# Altium schematic symbol library control Board.SchLib: 43 symbols
Pins are listed as number, name and electrical type; pins without a type are passive.

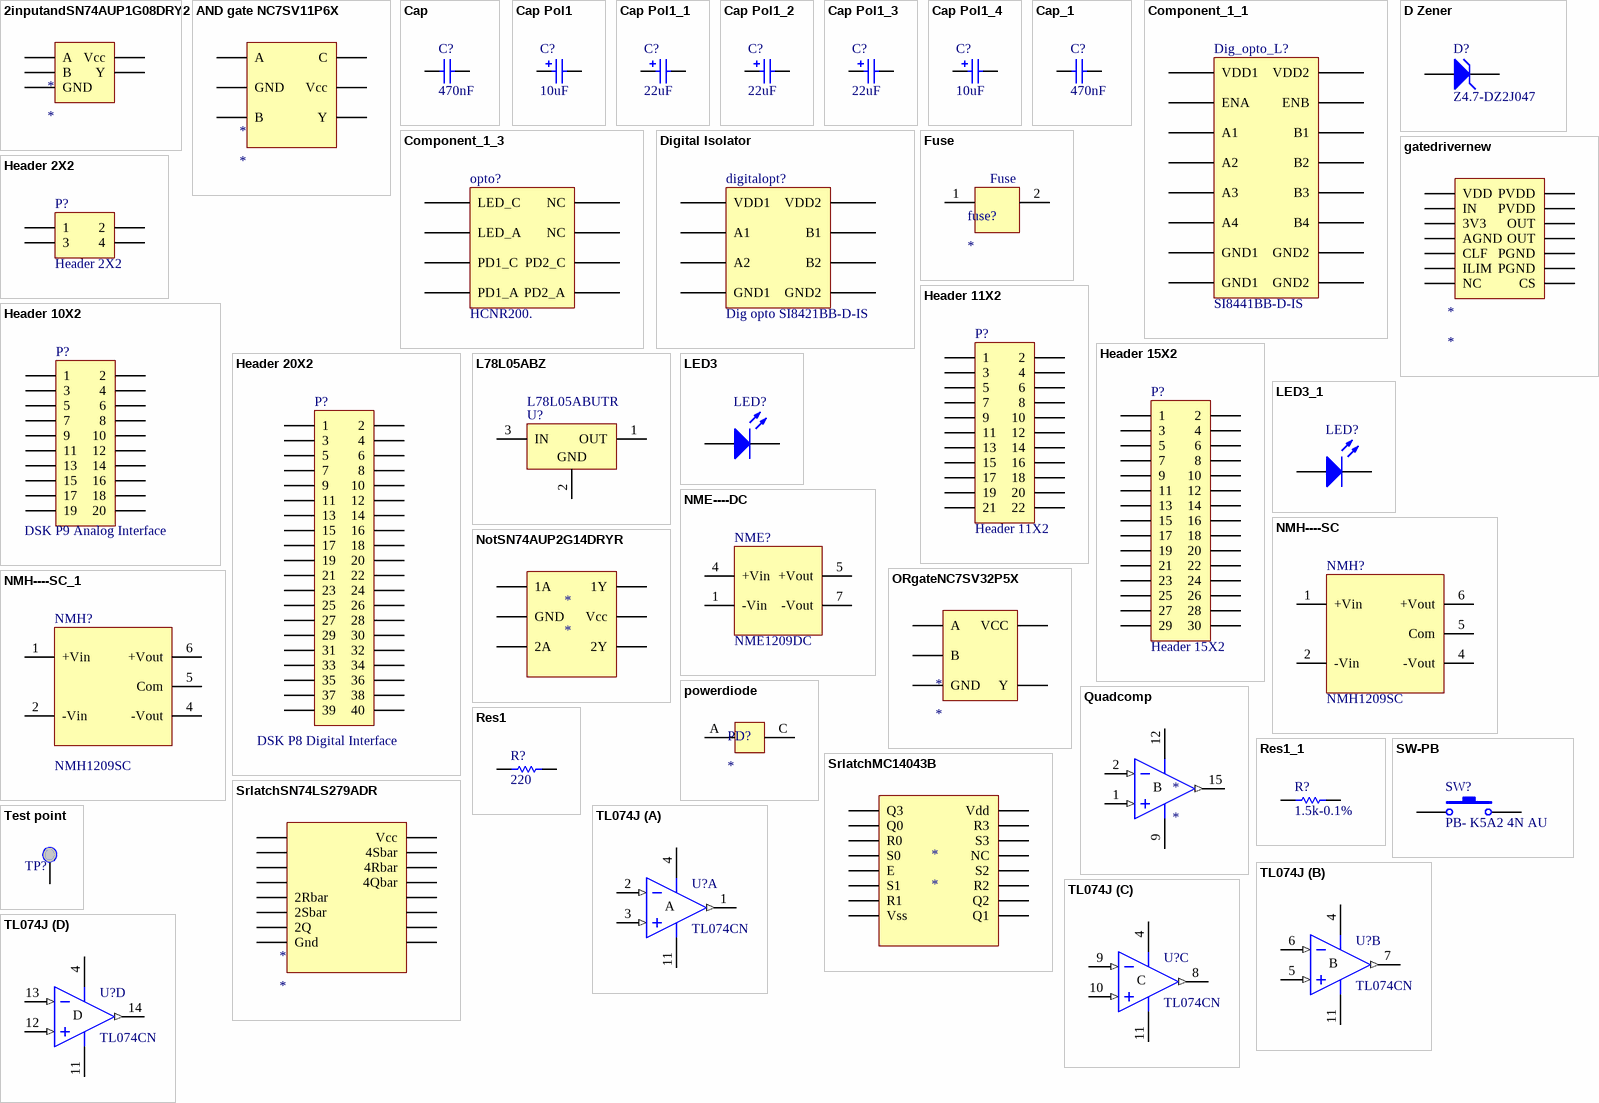
[diagram p0: symbols 2inputandSN74AUP1G08DRY2 to TL074J]

## 2inputandSN74AUP1G08DRY2
designator *
pins: 45 A, 46 B, 47 GND, 48 Vcc, 49 Y

## AND gate NC7SV11P6X
designator *
pins: 17 A, 18 GND, 20 C, 21 Vcc, 22 Y, ?1 B

## Cap
designator C?  value 470nF  (hidden comment: Cap)
Capacitor; Published: 8-Jun-2000; LatestRevisionDate: 17-Jul-2002; LatestRevisionNote: Re-released for DXP Platform.; PackageReference: RAD-0.3; Publisher: Altium Limited
simulation model CAP (Capacitor)
signal-integrity model Cap
footprint Capacitor 0805
pins: 1, 2

## Cap Pol1
designator C?, comment value 10uF  (hidden comment: electrolytic)
Polarized Capacitor (Radial); Published: 8-Jun-2000; LatestRevisionDate: 17-Jul-2002; LatestRevisionNote: Re-released for DXP Platform.; PackageReference: RB7.6-15; Publisher: Altium Limited
footprint RB7.6-15 (Polarized Capacitor (Radial); 2 Leads)
footprint CAPPR1.27-1.7x2.8 (Capacitor, Radial, Tantalum; Body 1.7 x 2.8 mm (Dia.xH max); Pin Spacing 1.27 mm (typ))
footprint CAPPR1.5-4x5 (Capacitor, Electrolytic, Radial; Body 4 x 5 mm (Dia.xH typ); Pin Spacing 1.5 mm (typ))
footprint CAPPR2-5x6.8 (Capacitor, Electrolytic, Radial; Body 5 x 6.8 mm (Dia.xH typ); Pin Spacing 2 mm (typ))
footprint CAPPR5-5x5 (Capacitor, Electrolytic, Radial; Body 5 x 5 mm (Dia.xH typ); Pin Spacing 5 mm (typ))
footprint CAPPR7.5-16x35 (Capacitor, Electrolytic, Radial; Body 16 x 35 mm (Dia.xH typ); Pin Spacing 7.5 mm (typ))
simulation model CAP (Capacitor)
signal-integrity model Cap Pol
footprint CAP-10u-16V
pins: 1, 2
1 alternate drawing of the same symbol

## Cap Pol1_1
designator C?, comment value 22uF  (hidden comment: Tantalium)
Polarized Capacitor (Radial); Published: 8-Jun-2000; LatestRevisionDate: 17-Jul-2002; LatestRevisionNote: Re-released for DXP Platform.; PackageReference: RB7.6-15; Publisher: Altium Limited
simulation model CAP (Capacitor)
signal-integrity model Cap Pol
footprint Cap tantal 22u-25V
pins: 1, 2
1 alternate drawing of the same symbol

## Cap Pol1_2
designator C?, comment value 22uF  (hidden comment: Tantalium/T520A226M006ATE090)
Polarized Capacitor (Radial); Published: 8-Jun-2000; LatestRevisionDate: 17-Jul-2002; LatestRevisionNote: Re-released for DXP Platform.; PackageReference: RB7.6-15; Publisher: Altium Limited
simulation model CAP (Capacitor)
signal-integrity model Cap Pol
footprint Cap tantal 22u-25V
footprint Cap Tantal 3216
footprint Cap Tantal 3216
pins: 1, 2
1 alternate drawing of the same symbol

## Cap Pol1_3
designator C?, comment value 22uF  (hidden comment: Tantalium/T520A226M006ATE090)
Polarized Capacitor (Radial); Published: 8-Jun-2000; LatestRevisionDate: 17-Jul-2002; LatestRevisionNote: Re-released for DXP Platform.; PackageReference: RB7.6-15; Publisher: Altium Limited
simulation model CAP (Capacitor)
signal-integrity model Cap Pol
footprint Cap tantal 22u-25V
footprint Cap Tantal 3216
pins: 1, 2
1 alternate drawing of the same symbol

## Cap Pol1_4
designator C?, comment value 10uF  (hidden comment: electrolytic)
Polarized Capacitor (Radial); Published: 8-Jun-2000; LatestRevisionDate: 17-Jul-2002; LatestRevisionNote: Re-released for DXP Platform.; PackageReference: RB7.6-15; Publisher: Altium Limited
footprint RB7.6-15 (Polarized Capacitor (Radial); 2 Leads)
footprint CAPPR1.27-1.7x2.8 (Capacitor, Radial, Tantalum; Body 1.7 x 2.8 mm (Dia.xH max); Pin Spacing 1.27 mm (typ))
footprint CAPPR1.5-4x5 (Capacitor, Electrolytic, Radial; Body 4 x 5 mm (Dia.xH typ); Pin Spacing 1.5 mm (typ))
footprint CAPPR2-5x6.8 (Capacitor, Electrolytic, Radial; Body 5 x 6.8 mm (Dia.xH typ); Pin Spacing 2 mm (typ))
footprint CAPPR5-5x5 (Capacitor, Electrolytic, Radial; Body 5 x 5 mm (Dia.xH typ); Pin Spacing 5 mm (typ))
footprint CAPPR7.5-16x35 (Capacitor, Electrolytic, Radial; Body 16 x 35 mm (Dia.xH typ); Pin Spacing 7.5 mm (typ))
simulation model CAP (Capacitor)
signal-integrity model Cap Pol
footprint Cap elec 10u/16V
pins: 1, 2
1 alternate drawing of the same symbol

## Cap_1
designator C?, comment value 470nF  (hidden comment: Cap)
Capacitor; Published: 8-Jun-2000; LatestRevisionDate: 17-Jul-2002; LatestRevisionNote: Re-released for DXP Platform.; PackageReference: RAD-0.3; Publisher: Altium Limited
simulation model CAP (Capacitor)
signal-integrity model Cap
footprint Capacitor 0805
footprint Capacitor 0805
footprint Capacitor 0805
pins: 1, 2

## Component_1_1
designator Dig_opto_L?, comment SI8441BB-D-IS
footprint SOIC127P1030-16AL (SOIC, 16-Leads, Body 10.3x7.5mm, Pitch 1.27mm, IPC High Density)
footprint opto Si844
pins: 1 VDD1, 2 GND1, 3 A1, 4 A2, 5 A3, 6 A4, 7 ENA, 8 GND1, 9 GND2, 10 ENB, 11 B4, 12 B3, 13 B2, 14 B1, 15 GND2, 16 VDD2

## Component_1_3
designator opto?, comment HCNR200.
footprint HCNR200
pins: 1 LED_C, 2 LED_A, 3 PD1_C, 4 PD1_A, 5 PD2_A, 6 PD2_C, 7 NC, 8 NC

## D Zener
designator D?, comment Z4.7-DZ2J047
Zener Diode; Published: 8-Jun-2000; LatestRevisionDate: 17-Jul-2002; LatestRevisionNote: Re-released for DXP Platform.; PackageReference: DIODE-0.7; Publisher: Altium Limited
footprint DIODE-0.7 (Diode, Thru-Hole; 2 Leads; 0.7 in Pin Spacing)
simulation model ZENER (Diode)
signal-integrity model D Zener
footprint Zener DZ2J047
pins: 1 A, 2 K

## Digital Isolator
designator digitalopt?, comment Dig opto SI8421BB-D-IS
footprint SOIC127P600-8BL (SOIC, 8-Leads, Body 4.9x3.9mm, Pitch 1.27mm, IPC High Density)
footprint SO8 TS27l2
pins: 1 VDD1, 2 A1, 3 A2, 4 GND1, 5 GND2, 6 B2, 7 B1, 8 VDD2

## Fuse
designator fuse?
footprint fuse10a
pins: 1, 2

## gatedrivernew
designator *
pins: 2 VDD, 4 3V3, 5 AGND, 6 CLF, 7 ILIM, 8 NC, 9 PVDD, 10 PVDD, 11 OUT, 12 OUT, 13 PGND, ?1 IN, ?2 PGND, ?3 CS

## Header 2X2
designator P?
Header, 2-Pin, Dual row; LatestRevisionDate: 17-Jul-2002; LatestRevisionNote: Re-released for DXP Platform.; Publisher: Altium Limited
footprint HDR2X2 (Connector; Header; 2x2 Position)
signal-integrity model Connector
pins: 1, 2, 3, 4

## Header 10X2
designator P?, comment DSK P9 Analog Interface
Header, 10-Pin, Dual row; LatestRevisionDate: 17-Jul-2002; LatestRevisionNote: Re-released for DXP Platform.; Publisher: Altium Limited
footprint HDR2X10 (Connector; Header; 10x2 Position)
signal-integrity model Connector
footprint Header 2*10
pins: 1, 2, 3, 4, 5, 6, 7, 8, 9, 10, 11, 12, 13, 14, 15, 16, 17, 18, 19, 20

## Header 11X2
designator P?
Header, 11-Pin, Dual row; LatestRevisionDate: 17-Jul-2002; LatestRevisionNote: Re-released for DXP Platform.; Publisher: Altium Limited
footprint HDR2X11 (Connector; Header; 11x2 Position)
signal-integrity model Connector
pins: 1, 2, 3, 4, 5, 6, 7, 8, 9, 10, 11, 12, 13, 14, 15, 16, 17, 18, 19, 20, 21, 22

## Header 15X2
designator P?
Header, 15-Pin, Dual row; LatestRevisionDate: 17-Jul-2002; LatestRevisionNote: Re-released for DXP Platform.; Publisher: Altium Limited
footprint HDR2X15 (Connector; Header; 15x2 Position)
signal-integrity model Connector
pins: 1, 2, 3, 4, 5, 6, 7, 8, 9, 10, 11, 12, 13, 14, 15, 16, 17, 18, 19, 20, 21, 22, 23, 24, 25, 26, 27, 28, 29, 30

## Header 20X2
designator P?, comment DSK P8 Digital Interface
Header, 20-Pin, Dual row; LatestRevisionDate: 17-Jul-2002; LatestRevisionNote: Re-released for DXP Platform.; Publisher: Altium Limited
footprint HDR2X20 (Connector; Header; 20x2 Position)
signal-integrity model Connector
pins: 1, 2, 3, 4, 5, 6, 7, 8, 9, 10, 11, 12, 13, 14, 15, 16, 17, 18, 19, 20, 21, 22, 23, 24, 25, 26, 27, 28, 29, 30, 31, 32, 33, 34, 35, 36, 37, 38, 39, 40

## L78L05ABZ
designator U?, comment L78L05ABUTR
Positive Voltage Regulator; Published: 24-Aug-2001; LatestRevisionDate: 17-Jul-2002; LatestRevisionNote: Re-released for DXP Platform.; DatasheetVersion: Feb-1999; PackageReference: TO92; Publisher: Altium Limited; PackageDescription: TO, Flat Index; 3 In-Line, Axial Leads; Body Dia. 4.8mm; Leads 0.51 x 0.51 mm (max); ComponentLink1Description: Manufacturer Link; ComponentLink1URL: http://www.st.com/
footprint TO92 (TO, Flat Index; 3 In-Line, Axial Leads; Body Dia. 4.8mm; Leads 0.51 x 0.51 mm (max))
footprint Reg SOT-89 +5
pins: 1 OUT (power), 2 GND (power), 3 IN (power)

## LED3
designator LED?, comment ON  (value not drawn)
Typical BLUE SiC LED; Published: 8-Jun-2000; LatestRevisionDate: 17-Dec-2003; LatestRevisionNote: PCB Footprint replaced.; DatasheetDocument: 16-Apr-2002; PackageDocument: 16-Apr-2002; PackageReference: 3.5X2.8X1.9; Publisher: Altium Limited
footprint 3.5X2.8X1.9 (SM LED; 2 C-Bend Leads; Body 3.5 x 2.8 x 1.9 mm, inc leads (LxWxH typ))
simulation model LED3 (Diode)
signal-integrity model LED
footprint LED 0805
pins: 1 A, 2 K

## LED3_1
designator LED?, comment ON  (value not drawn)
Typical BLUE SiC LED; Published: 8-Jun-2000; LatestRevisionDate: 17-Dec-2003; LatestRevisionNote: PCB Footprint replaced.; DatasheetDocument: 16-Apr-2002; PackageDocument: 16-Apr-2002; PackageReference: 3.5X2.8X1.9; Publisher: Altium Limited
footprint 3.5X2.8X1.9 (SM LED; 2 C-Bend Leads; Body 3.5 x 2.8 x 1.9 mm, inc leads (LxWxH typ))
simulation model LED3 (Diode)
signal-integrity model LED
footprint LED 0805
footprint LED 0805
pins: 1 A, 2 K

## NME----DC
designator NME?, comment NME1209DC
footprint NME1209DC
pins: 1 -Vin, 4 +Vin, 5 +Vout, 7 -Vout

## NMH----SC
designator NMH?, comment NMH1209SC
footprint Power_isolated
footprint Power_isolated
pins: 1 +Vin, 2 -Vin, 4 -Vout, 5 Com, 6 +Vout

## NMH----SC_1
designator NMH?, comment NMH1209SC
footprint NMH1209SC
pins: 1 +Vin, 2 -Vin, 4 -Vout, 5 Com, 6 +Vout

## NotSN74AUP2G14DRYR
designator *
pins: 17 1A, 18 GND, 20 1Y, 21 Vcc, 22 2Y, ?1 2A

## ORgateNC7SV32P5X
designator *
pins: 39 A, 40 B, 41 GND, 42 VCC, 44 Y

## powerdiode
designator PD?
footprint diodes600v15AMUR1560GOS-ND
pins: A, C

## Quadcomp
designator *
pins: 1 IN+ (in), 2 IN- (in), 9 V- (power), 12, 15 OUTA (out)
text: B

## Res1
designator R?  value 220  (hidden comment: Res1)
Resistor; Published: 8-Jun-2000; Revision: July-2002: Re-released for DXP Platform.; Publisher: Altium Limited
simulation model RESISTOR (Resistor)
signal-integrity model Res
footprint 0805 RES
pins: 1, 2
1 alternate drawing of the same symbol

## Res1_1
designator R?, comment value 1.5k-0.1%  (hidden comment: Res1)
Resistor; Published: 8-Jun-2000; LatestRevisionDate: 17-Jul-2002; LatestRevisionNote: Re-released for DXP Platform.; PackageReference: AXIAL-0.3; Publisher: Altium Limited
simulation model RESISTOR (Resistor)
signal-integrity model Res
footprint 0805 RES
pins: 1, 2

## SrlatchMC14043B
designator *
pins: 23 Vdd, 24 R3, 25 S3, 26 NC, 27 S2, 28 R2, 29 Q2, 30 Q1, 31 Q3, 32 Q0, 33 R0, 34 S0, 35 E, 36 S1, 37 R1, 38 Vss

## SrlatchSN74LS279ADR
designator *
pins: 23 Vcc, 24 4Sbar, 25 4Rbar, 26 4Qbar, 27, 28, 29, 30, 31, 32, 33, 34, 35 2Rbar, 36 2Sbar, 37 2Q, 38 Gnd

## SW-PB
designator SW?, comment PB- K5A2 4N AU
Switch; Published: 24-Mar-1999; Revision: July-2002: Re-released for DXP Platform.; Publisher: Altium Limited
footprint SPST-2 (Switch; 2 Leads)
footprint switch-2
footprint SWITCH_SMD
footprint push button
pins: 1, 2

## Test point
designator TP?  (value not drawn)
footprint Test Point
pins: 1

## TL074J
designator U?, comment TL074CN
Low-Noise JFET-Input Operational Amplifier; Published: 16-Jan-2001; LatestRevisionDate: 04-Mar-2005; LatestRevisionNote: Stylized 3D Model Added.; DatasheetVersion: Aug-1996; PackageVersion: Jun-1999; PackageReference: J014; Publisher: Altium Limited; PackageDescription: DIP; 14 Leads; Row Spacing 7.62 mm; Pitch 2.54 mm; ComponentLink1Description: Manufacturer Link; ComponentLink1URL: http://www.ti.com/; ComponentLink2Description: Datasheet; ComponentLink2URL: http://www-s.ti.com/sc/ds/tl074.pdf
3D model J014 (DIP; 14 Leads; Row Spacing 7.62 mm; Pitch 2.54 mm)
simulation model TL074 (SUBCKT)
footprint DIP14
pins on every part: 4 V+ (power), 11 V- (power)
part A pins: 1 OUT (out), 2 IN- (in), 3 IN+ (in)
part B pins: 5 IN+ (in), 6 IN- (in), 7 OUT (out)
part C pins: 8 OUT (out), 9 IN- (in), 10 IN+ (in)
part D pins: 12 IN+ (in), 13 IN- (in), 14 OUT (out)
part A text: A
part B text: B
part C text: C
part D text: D

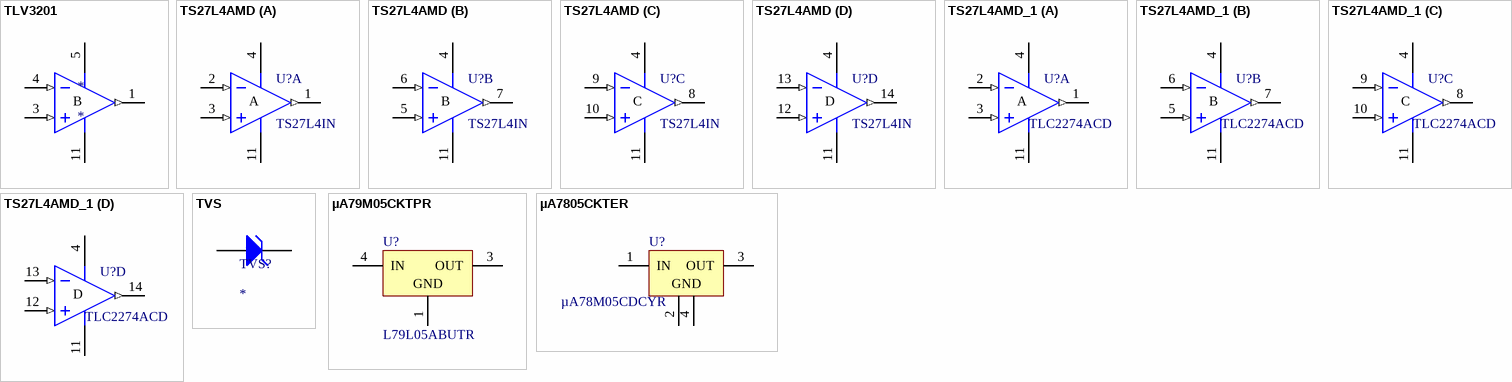
[diagram p1: symbols TLV3201 to µA7805CKTER]

## TLV3201
designator *
pins: 1 out (out), 3 IN+ (in), 4 IN- (in), 5 V+ (power), 11 2 (power)
text: B

## TS27L4AMD
designator U?, comment TS27L4IN
Very Low-Power CMOS Quad Operational Amplifier; Published: 24-Aug-2001; LatestRevisionDate: 13-Apr-2006; LatestRevisionNote: IPC-7351 Footprint Added.; DatasheetVersion: Nov-1998; PackageVersion: Sep-1998; PackageReference: SO14; Publisher: Altium Limited; PackageDescription: 14-Pin Small Outline Integrated Circuit 1.27 mm Pitch; Code_IPC: SOIC127P600-14; ComponentLink1Description: Manufacturer Link; ComponentLink1URL: http://www.st.com/; ComponentLink2Description: Datasheet; ComponentLink2URL: http://www.st.com/stonline/products/literature/ds/2305/ts27l4.pdf
3D model SO14 (14-Pin Small Outline Integrated Circuit 1.27 mm Pitch)
footprint DIP14
pins on every part: 4 V+ (power), 11 V- (power)
part A pins: 1 OUT (out), 2 IN- (in), 3 IN+ (in)
part B pins: 5 IN+ (in), 6 IN- (in), 7 OUT (out)
part C pins: 8 OUT (out), 9 IN- (in), 10 IN+ (in)
part D pins: 12 IN+ (in), 13 IN- (in), 14 OUT (out)
part A text: A
part B text: B
part C text: C
part D text: D

## TS27L4AMD_1
designator U?, comment TLC2274ACD
Very Low-Power CMOS Quad Operational Amplifier; Published: 24-Aug-2001; LatestRevisionDate: 13-Apr-2006; LatestRevisionNote: IPC-7351 Footprint Added.; DatasheetVersion: Nov-1998; PackageVersion: Sep-1998; PackageReference: SO14; Publisher: Altium Limited; PackageDescription: 14-Pin Small Outline Integrated Circuit 1.27 mm Pitch; Code_IPC: SOIC127P600-14; ComponentLink1Description: Manufacturer Link; ComponentLink1URL: http://www.st.com/; ComponentLink2Description: Datasheet; ComponentLink2URL: http://www.st.com/stonline/products/literature/ds/2305/ts27l4.pdf
3D model SO14 (14-Pin Small Outline Integrated Circuit 1.27 mm Pitch)
footprint DIP14
footprint SOIC14
pins on every part: 4 V+ (power), 11 V- (power)
part A pins: 1 OUT (out), 2 IN- (in), 3 IN+ (in)
part B pins: 5 IN+ (in), 6 IN- (in), 7 OUT (out)
part C pins: 8 OUT (out), 9 IN- (in), 10 IN+ (in)
part D pins: 12 IN+ (in), 13 IN- (in), 14 OUT (out)
part A text: A
part B text: B
part C text: C
part D text: D

## TVS
designator TVS?
footprint TVS
pins: 1 A, 2 K

## µA79M05CKTPR
designator U?, comment L79L05ABUTR
Negative-Voltage Regulator; Note: Pin 2 is electrically connected to pin4, and not drawn.; Published: 15-Apr-2002; DatasheetVersion: Apr-2000; PackageVersion: Jan-2001; PackageReference: KTP02; Publisher: Altium Limited; PackageDescription: PowerFLEX (D-PAK/TO-252-AA); 3 Leads (1 Cropped); Body 9.7 (inc. leads) x 6.2 mm (LxW max); Code_JEDEC: TO-252; ComponentLink1Description: Manufacturer Link; ComponentLink1URL: http://www.ti.com/; ComponentLink2Description: Datasheet; ComponentLink2URL: http://www-s.ti.com/sc/ds/ua79m05.pdf
footprint KTP02 (PowerFLEX (D-PAK/TO-252-AA); 3 Leads (1 Cropped); Body 9.7 (inc. leads) x 6.2 mm (LxW max))
footprint Reg SOT-89
pins: 1 GND (power), 3 OUT (power), 4 IN (power)

## µA7805CKTER
designator U?, comment µA78M05CDCYR
Positive-Voltage Regulator; Note: Pin 2 is electrically connected to TAB/Pin4.; Published: 15-Apr-2002; DatasheetVersion: Jul-1999; PackageVersion: Jan-2001; PackageReference: KTE03; Publisher: Altium Limited; PackageDescription: PowerFLEX; 3 Leads; Body 10.7 (inc. leads) x 9.5 mm (LxW max); Code_JEDEC: MO-169; ComponentLink1Description: Manufacturer Link; ComponentLink1URL: http://www.ti.com/; ComponentLink2Description: Datasheet; ComponentLink2URL: http://www-s.ti.com/sc/ds/ua7805.pdf
footprint KTE03 (PowerFLEX; 3 Leads; Body 10.7 (inc. leads) x 9.5 mm (LxW max))
footprint Reg - SOT223
pins: 1 IN (power), 2 GND (power), 3 OUT (power), 4 GND (power)